# Altium schematic symbol library CC1150RGVR.SchLib: 1 symbol
Pins are listed as number, name and electrical type; pins without a type are passive.

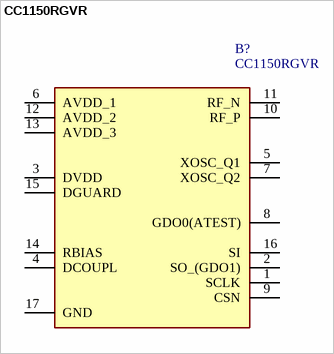
[diagram p0: symbol CC1150RGVR]

## CC1150RGVR
designator B?
Highly Integrated Multichannel RF Transmitter Designed for Low-Power Wireless Applications; Manufacturer_Name: Texas Instruments; Geometry.Height: 1mm; Mouser Part Number: 595-CC1150RGVR; Mouser Price/Stock: https://www.mouser.com/Search/Refine.aspx?Keyword=595-CC1150RGVR; Manufacturer_Part_Number: CC1150RGVR; Datasheet Link: http://www.ti.com/lit/gpn/CC1150
footprint QFN65P400X400X100-17N-D
pins: 1 SCLK, 2 SO_(GDO1), 3 DVDD, 4 DCOUPL, 5 XOSC_Q1, 6 AVDD_1, 7 XOSC_Q2, 8 GDO0(ATEST), 9 CSN, 10 RF_P, 11 RF_N, 12 AVDD_2, 13 AVDD_3, 14 RBIAS, 15 DGUARD, 16 SI, 17 GND